# Altium integrated library ST Remote Control Transmitter.IntLib: 14 symbols
Pins are listed as number, name and electrical type; pins without a type are passive.

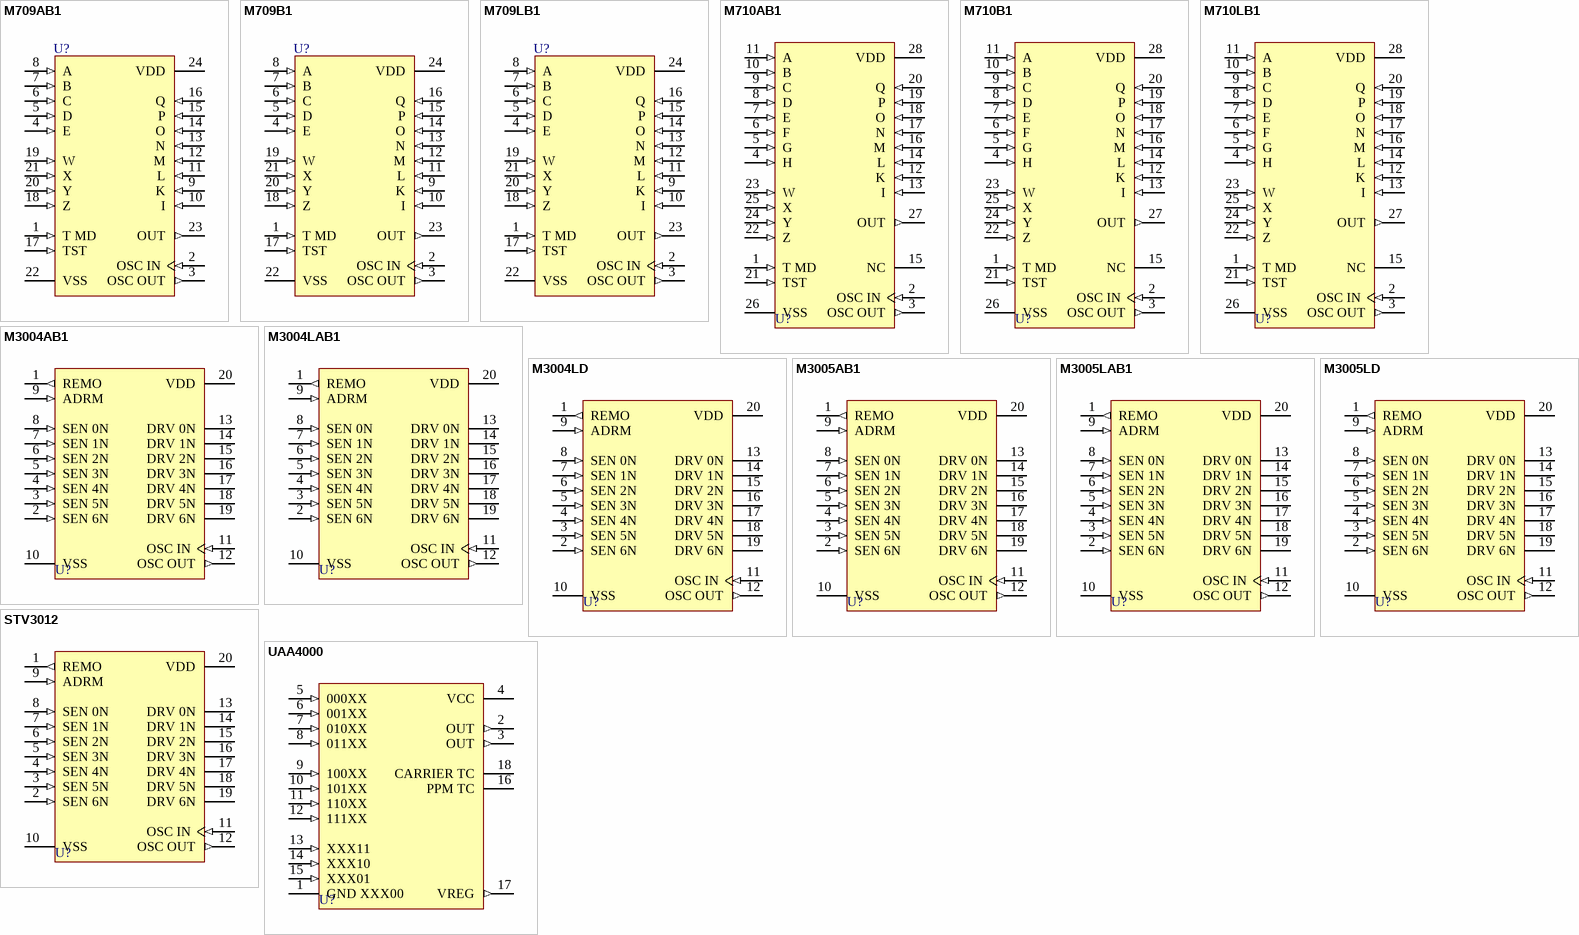
[diagram p0: symbols M709AB1 to UAA4000]

## M709AB1
designator U?
PCM Remote Control Transmitter; Note: Test pin (pin 17) must be connected to Vss.; Published: 24-Aug-2001; LatestRevisionDate: 17-Jul-2002; LatestRevisionNote: Re-released for DXP Platform.; DatasheetDocument: Mar-1995; PackageDocument: Jan-1995; PackageReference: PDIP24; Publisher: Altium Limited
footprint PDIP24 (DIP; 24 Leads; Row Spacing 15.24 mm; Pitch 2.54 mm)
pins: 1 T MD (in), 2 OSC IN (in), 3 OSC OUT (out), 4 E (in), 5 D (in), 6 C (in), 7 B (in), 8 A (in), 9 K (in), 10 I (in), 11 L (in), 12 M (in), 13 N (in), 14 O (in), 15 P (in), 16 Q (in), 17 TST (in), 18 Z (in), 19 W (in), 20 Y (in), 21 X (in), 22 VSS (power), 23 OUT (out), 24 VDD (power)

## M709B1
designator U?
PCM Remote Control Transmitter; Note: Test pin (pin 17) must be connected to Vss.; Published: 24-Aug-2001; LatestRevisionDate: 17-Jul-2002; LatestRevisionNote: Re-released for DXP Platform.; DatasheetDocument: Mar-1995; PackageDocument: Jan-1995; PackageReference: PDIP24; Publisher: Altium Limited
footprint PDIP24 (DIP; 24 Leads; Row Spacing 15.24 mm; Pitch 2.54 mm)
pins: 1 T MD (in), 2 OSC IN (in), 3 OSC OUT (out), 4 E (in), 5 D (in), 6 C (in), 7 B (in), 8 A (in), 9 K (in), 10 I (in), 11 L (in), 12 M (in), 13 N (in), 14 O (in), 15 P (in), 16 Q (in), 17 TST (in), 18 Z (in), 19 W (in), 20 Y (in), 21 X (in), 22 VSS (power), 23 OUT (out), 24 VDD (power)

## M709LB1
designator U?
PCM Remote Control Transmitter (Low Voltage); Note: Test pin (pin 17) must be connected to Vss.; Published: 24-Aug-2001; LatestRevisionDate: 17-Jul-2002; LatestRevisionNote: Re-released for DXP Platform.; DatasheetDocument: Mar-1995; PackageDocument: Jan-1995; PackageReference: PDIP24; Publisher: Altium Limited
footprint PDIP24 (DIP; 24 Leads; Row Spacing 15.24 mm; Pitch 2.54 mm)
pins: 1 T MD (in), 2 OSC IN (in), 3 OSC OUT (out), 4 E (in), 5 D (in), 6 C (in), 7 B (in), 8 A (in), 9 K (in), 10 I (in), 11 L (in), 12 M (in), 13 N (in), 14 O (in), 15 P (in), 16 Q (in), 17 TST (in), 18 Z (in), 19 W (in), 20 Y (in), 21 X (in), 22 VSS (power), 23 OUT (out), 24 VDD (power)

## M710AB1
designator U?
PCM Remote Control Transmitter; Note: Test pin (pin 17) must be connected to Vss.; Published: 24-Aug-2001; LatestRevisionDate: 17-Jul-2002; LatestRevisionNote: Re-released for DXP Platform.; DatasheetDocument: Mar-1995; PackageDocument: Jan-2003; PackageReference: PDIP28; Publisher: Altium Limited
footprint PDIP28 (DIP; 28 Leads; Row Spacing 15.24 mm; Pitch 2.54 mm)
pins: 1 T MD (in), 2 OSC IN (in), 3 OSC OUT (out), 4 H (in), 5 G (in), 6 F (in), 7 E (in), 8 D (in), 9 C (in), 10 B (in), 11 A (in), 12 K (in), 13 I (in), 14 L (in), 15 NC, 16 M (in), 17 N (in), 18 O (in), 19 P (in), 20 Q (in), 21 TST (in), 22 Z (in), 23 W (in), 24 Y (in), 25 X (in), 26 VSS (power), 27 OUT (out), 28 VDD (power)

## M710B1
designator U?
PCM Remote Control Transmitter; Note: Test pin (pin 17) must be connected to Vss.; Published: 24-Aug-2001; LatestRevisionDate: 17-Jul-2002; LatestRevisionNote: Re-released for DXP Platform.; DatasheetDocument: Mar-1995; PackageDocument: Jan-2003; PackageReference: PDIP28; Publisher: Altium Limited
footprint PDIP28 (DIP; 28 Leads; Row Spacing 15.24 mm; Pitch 2.54 mm)
pins: 1 T MD (in), 2 OSC IN (in), 3 OSC OUT (out), 4 H (in), 5 G (in), 6 F (in), 7 E (in), 8 D (in), 9 C (in), 10 B (in), 11 A (in), 12 K (in), 13 I (in), 14 L (in), 15 NC, 16 M (in), 17 N (in), 18 O (in), 19 P (in), 20 Q (in), 21 TST (in), 22 Z (in), 23 W (in), 24 Y (in), 25 X (in), 26 VSS (power), 27 OUT (out), 28 VDD (power)

## M710LB1
designator U?
PCM Remote Control Transmitter (Low Voltage); Note: Test pin (pin 17) must be connected to Vss.; Published: 24-Aug-2001; LatestRevisionDate: 17-Jul-2002; LatestRevisionNote: Re-released for DXP Platform.; DatasheetDocument: Mar-1995; PackageDocument: Jan-2003; PackageReference: PDIP28; Publisher: Altium Limited
footprint PDIP28 (DIP; 28 Leads; Row Spacing 15.24 mm; Pitch 2.54 mm)
pins: 1 T MD (in), 2 OSC IN (in), 3 OSC OUT (out), 4 H (in), 5 G (in), 6 F (in), 7 E (in), 8 D (in), 9 C (in), 10 B (in), 11 A (in), 12 K (in), 13 I (in), 14 L (in), 15 NC, 16 M (in), 17 N (in), 18 O (in), 19 P (in), 20 Q (in), 21 TST (in), 22 Z (in), 23 W (in), 24 Y (in), 25 X (in), 26 VSS (power), 27 OUT (out), 28 VDD (power)

## M3004AB1
designator U?
Remote Control Transmitter; Published: 24-Aug-2001; LatestRevisionDate: 17-Jul-2002; LatestRevisionNote: Re-released for DXP Platform.; DatasheetDocument: Mar-1995; PackageDocument: Jun-1998; PackageReference: DIP20; Publisher: Altium Limited; Code_JEDEC: MS-015-AE
footprint DIP20 (DIP; 20 Leads; Row Spacing 7.62 mm; Pitch 2.54 mm)
pins: 1 REMO (out), 2 SEN 6N (in), 3 SEN 5N (in), 4 SEN 4N (in), 5 SEN 3N (in), 6 SEN 2N (in), 7 SEN 1N (in), 8 SEN 0N (in), 9 ADRM (in), 10 VSS (power), 11 OSC IN (in), 12 OSC OUT (out), 13 DRV 0N (oc), 14 DRV 1N (oc), 15 DRV 2N (oc), 16 DRV 3N (oc), 17 DRV 4N (oc), 18 DRV 5N (oc), 19 DRV 6N (oc), 20 VDD (power)

## M3004LAB1
designator U?
Remote Control Transmitter; Published: 24-Aug-2001; LatestRevisionDate: 17-Jul-2002; LatestRevisionNote: Re-released for DXP Platform.; DatasheetDocument: Jun-1992; PackageDocument: Jun-1998; PackageReference: DIP20; Publisher: Altium Limited; Code_JEDEC: MS-015-AE
footprint DIP20 (DIP; 20 Leads; Row Spacing 7.62 mm; Pitch 2.54 mm)
pins: 1 REMO (out), 2 SEN 6N (in), 3 SEN 5N (in), 4 SEN 4N (in), 5 SEN 3N (in), 6 SEN 2N (in), 7 SEN 1N (in), 8 SEN 0N (in), 9 ADRM (in), 10 VSS (power), 11 OSC IN (in), 12 OSC OUT (out), 13 DRV 0N (oc), 14 DRV 1N (oc), 15 DRV 2N (oc), 16 DRV 3N (oc), 17 DRV 4N (oc), 18 DRV 5N (oc), 19 DRV 6N (oc), 20 VDD (power)

## M3004LD
designator U?
Remote Control Transmitter; Published: 24-Aug-2001; LatestRevisionDate: 17-Jul-2002; LatestRevisionNote: Re-released for DXP Platform.; DatasheetDocument: Jun-1992; PackageDocument: Jul-2001; PackageReference: SO20; Publisher: Altium Limited; Code_JEDEC: MS-013-AC; Code_IPC: SO20W
footprint SO20 (Small Outline, Plastic; 20 Leads; Body Width 7.5 mm; Pitch 1.27 mm)
pins: 1 REMO (out), 2 SEN 6N (in), 3 SEN 5N (in), 4 SEN 4N (in), 5 SEN 3N (in), 6 SEN 2N (in), 7 SEN 1N (in), 8 SEN 0N (in), 9 ADRM (in), 10 VSS (power), 11 OSC IN (in), 12 OSC OUT (out), 13 DRV 0N (oc), 14 DRV 1N (oc), 15 DRV 2N (oc), 16 DRV 3N (oc), 17 DRV 4N (oc), 18 DRV 5N (oc), 19 DRV 6N (oc), 20 VDD (power)

## M3005AB1
designator U?
Remote Control Transmitter; Published: 24-Aug-2001; LatestRevisionDate: 17-Jul-2002; LatestRevisionNote: Re-released for DXP Platform.; DatasheetDocument: Mar-1995; PackageDocument: Jun-1998; PackageReference: DIP20; Publisher: Altium Limited; Code_JEDEC: MS-015-AE
footprint DIP20 (DIP; 20 Leads; Row Spacing 7.62 mm; Pitch 2.54 mm)
pins: 1 REMO (out), 2 SEN 6N (in), 3 SEN 5N (in), 4 SEN 4N (in), 5 SEN 3N (in), 6 SEN 2N (in), 7 SEN 1N (in), 8 SEN 0N (in), 9 ADRM (in), 10 VSS (power), 11 OSC IN (in), 12 OSC OUT (out), 13 DRV 0N (oc), 14 DRV 1N (oc), 15 DRV 2N (oc), 16 DRV 3N (oc), 17 DRV 4N (oc), 18 DRV 5N (oc), 19 DRV 6N (oc), 20 VDD (power)

## M3005LAB1
designator U?
Remote Control Transmitter; Published: 24-Aug-2001; LatestRevisionDate: 17-Jul-2002; LatestRevisionNote: Re-released for DXP Platform.; DatasheetDocument: Jun-1992; PackageDocument: Jun-1998; PackageReference: DIP20; Publisher: Altium Limited; Code_JEDEC: MS-015-AE
footprint DIP20 (DIP; 20 Leads; Row Spacing 7.62 mm; Pitch 2.54 mm)
pins: 1 REMO (out), 2 SEN 6N (in), 3 SEN 5N (in), 4 SEN 4N (in), 5 SEN 3N (in), 6 SEN 2N (in), 7 SEN 1N (in), 8 SEN 0N (in), 9 ADRM (in), 10 VSS (power), 11 OSC IN (in), 12 OSC OUT (out), 13 DRV 0N (oc), 14 DRV 1N (oc), 15 DRV 2N (oc), 16 DRV 3N (oc), 17 DRV 4N (oc), 18 DRV 5N (oc), 19 DRV 6N (oc), 20 VDD (power)

## M3005LD
designator U?
Remote Control Transmitter; Published: 24-Aug-2001; LatestRevisionDate: 17-Jul-2002; LatestRevisionNote: Re-released for DXP Platform.; DatasheetDocument: Jun-1992; PackageDocument: Jul-2001; PackageReference: SO20; Publisher: Altium Limited; Code_JEDEC: MS-013-AC; Code_IPC: SO20W
footprint SO20 (Small Outline, Plastic; 20 Leads; Body Width 7.5 mm; Pitch 1.27 mm)
pins: 1 REMO (out), 2 SEN 6N (in), 3 SEN 5N (in), 4 SEN 4N (in), 5 SEN 3N (in), 6 SEN 2N (in), 7 SEN 1N (in), 8 SEN 0N (in), 9 ADRM (in), 10 VSS (power), 11 OSC IN (in), 12 OSC OUT (out), 13 DRV 0N (oc), 14 DRV 1N (oc), 15 DRV 2N (oc), 16 DRV 3N (oc), 17 DRV 4N (oc), 18 DRV 5N (oc), 19 DRV 6N (oc), 20 VDD (power)

## STV3012
designator U?
Remote Control Transmitter for Audio and Video Application; Published: 24-Aug-2001; LatestRevisionDate: 17-Jul-2002; LatestRevisionNote: Re-released for DXP Platform.; DatasheetDocument: Mar-1993; PackageDocument: Jun-1998; PackageReference: DIP20; Publisher: Altium Limited; Code_JEDEC: MS-015-AE
footprint DIP20 (DIP; 20 Leads; Row Spacing 7.62 mm; Pitch 2.54 mm)
pins: 1 REMO (out), 2 SEN 6N (in), 3 SEN 5N (in), 4 SEN 4N (in), 5 SEN 3N (in), 6 SEN 2N (in), 7 SEN 1N (in), 8 SEN 0N (in), 9 ADRM (in), 10 VSS (power), 11 OSC IN (in), 12 OSC OUT (out), 13 DRV 0N (oc), 14 DRV 1N (oc), 15 DRV 2N (oc), 16 DRV 3N (oc), 17 DRV 4N (oc), 18 DRV 5N (oc), 19 DRV 6N (oc), 20 VDD (power)

## UAA4000
designator U?
Remote Control Transmitter; Published: 24-Aug-2001; LatestRevisionDate: 17-Jul-2002; LatestRevisionNote: Re-released for DXP Platform.; DatasheetDocument: Mar-1993; PackageReference: DIP18; Publisher: Altium Limited
footprint DIP18 (DIP; 18 Leads; Row Spacing 7.62 mm; Pitch 2.54 mm)
pins: 1 GND XXX00 (power), 2 OUT (out), 3 OUT (out), 4 VCC (power), 5 000XX (in), 6 001XX (in), 7 010XX (in), 8 011XX (in), 9 100XX (in), 10 101XX (in), 11 110XX (in), 12 111XX (in), 13 XXX11 (in), 14 XXX10 (in), 15 XXX01 (in), 16 PPM TC, 17 VREG (out), 18 CARRIER TC